# EAGLE library part XB2B-WF*-001 (library Module)
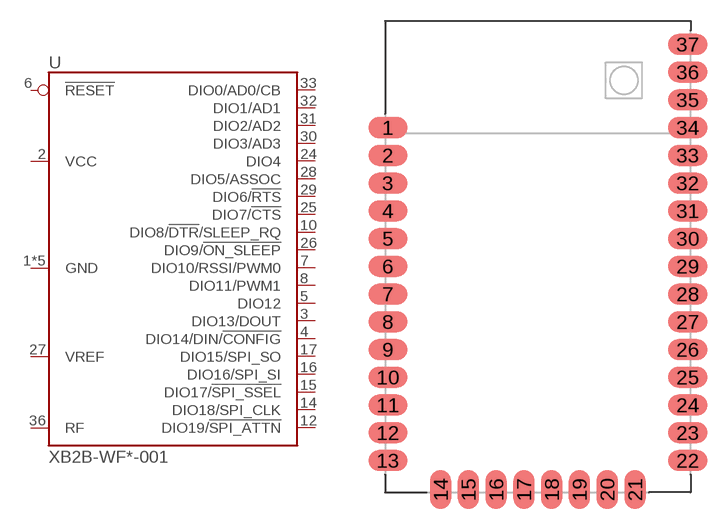
[diagram p2: symbol with the pads of XBEE-WIFI-SMT; footprint XBEE-WIFI-SMT]

Designator prefix U

## XB2B-WFPS-001, XB2B-WFRS-001, XB2B-WFUS-001  [XBEE-WIFI-SMT]
1  GND
2  VCC
3  DIO13/DOUT
4  DIO14/DIN/!CONFIG
5  DIO12
6  !RESET
7  DIO10/RSSI/PWM0
8  DIO11/PWM1
10  DIO8/!DTR!/SLEEP_RQ
11  GND
12  DIO19/!SPI_ATTN!
13  GND
14  DIO18/SPI_CLK
15  DIO17/!SPI_SSEL!
16  DIO16/SPI_SI
17  DIO15/SPI_SO
22  GND
24  DIO4
25  DIO7/!CTS!
26  DIO9/!ON_SLEEP!
27  VREF
28  DIO5/ASSOC
29  DIO6/!RTS!
30  DIO3/AD3
31  DIO2/AD2
32  DIO1/AD1
33  DIO0/AD0/CB
35  GND
36  RF

## Footprint XBEE-WIFI-SMT (pad centres in mm)
smd 2.8 x 1.5: 1 -10.8,9.3; 2 -10.8,7.3; 3 -10.8,5.3; 4 -10.8,3.3; 5 -10.8,1.3; 6 -10.8,-0.7; 7 -10.8,-2.7; 8 -10.8,-4.7; 9 -10.8,-6.7; 10 -10.8,-8.7; 11 -10.8,-10.7; 12 -10.8,-12.7; 13 -10.8,-14.7; 22 10.8,-14.7; 23 10.8,-12.7; 24 10.8,-10.7; 25 10.8,-8.7; 26 10.8,-6.7; 27 10.8,-4.7; 28 10.8,-2.7; 29 10.8,-0.7; 30 10.8,1.3; 31 10.8,3.3; 32 10.8,5.3; 33 10.8,7.3; 34 10.8,9.3; 35 10.8,11.3; 36 10.8,13.3; 37 10.8,15.3
smd 1.5 x 2.8: 14 -7,-16.8; 15 -5,-16.8; 16 -3,-16.8; 17 -1,-16.8; 18 1,-16.8; 19 3,-16.8; 20 5,-16.8; 21 7,-16.8